# Altium footprint library Header_Molex_87832-1420_14POS.PcbLib: 1 footprints
Each footprint in its own frame and in the unit in brackets; x right, y up, seen from the top. Pads: shape width x height; smd on the part's side, far side on the other; paste and mask are expansions set on the pad; w line width, h text height; cw(c..) or ccw(c..) is an arc to the next point about the centre after c.
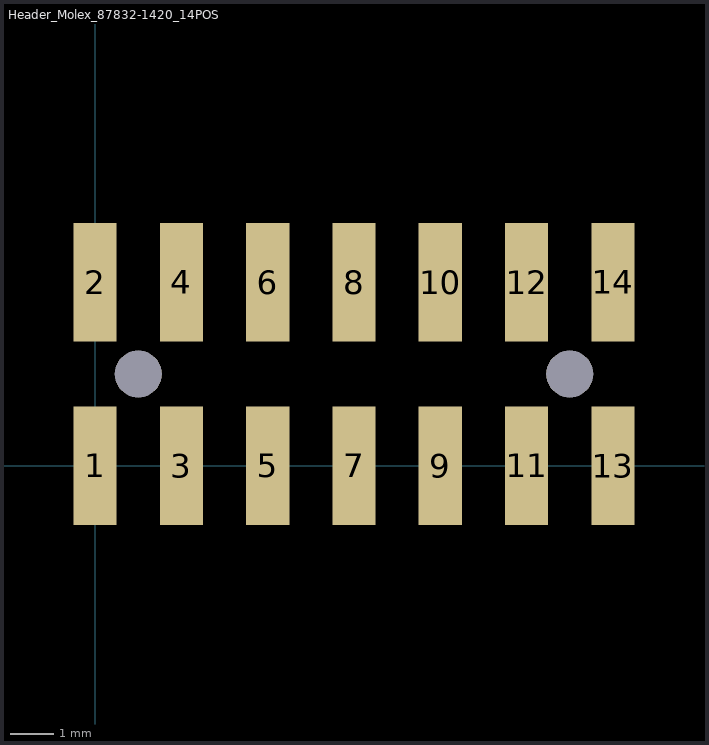
[diagram p0: the footprint, top view; thin cyan lines are the x and y axes]

## Header_Molex_87832-1420_14POS [mm]
pads (16):
  rect 1x2.75 smd: 1(0,0) 2(0,4.26) 3(2,0) 4(2,4.26) 5(4,0) 6(4,4.26) 7(6,0) 8(6,4.26) 9(8,0) 10(8,4.26) 11(10,0) 12(10,4.26) 13(12,0) 14(12,4.26)
  round 1.08 hole 1.08: ""(1,2.13) ""(11,2.13)
3D body "878321420.stp": height 7.6, standoff -0.75, extent -2.325,-1.05 14.325,5.25